# Altium footprint library OPTO_SMD.PcbLib: 1 footprints
Each footprint in its own frame and in the unit in brackets; x right, y up, seen from the top. Pads: shape width x height; smd on the part's side, far side on the other; paste and mask are expansions set on the pad; w line width, h text height; cw(c..) or ccw(c..) is an arc to the next point about the centre after c.
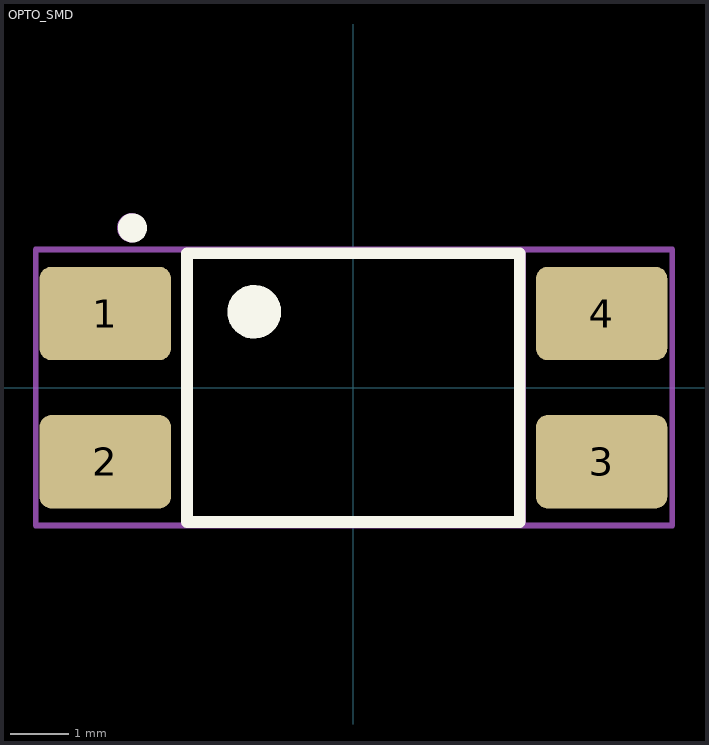
[diagram p0: the footprint, top view; thin cyan lines are the x and y axes]

## OPTO_SMD [mm] "OPTO_SMD"
pads (4):
  rrect25% 2.25x1.6 smd: 1(-4.25,1.27) 2(-4.25,-1.27) 3(4.25,-1.27) 4(4.25,1.27)
Top Overlay:
  circle w0.25: c-3.786,2.737 r0.125
  circle w0.2: c-1.7,1.3 r0.361
  region: -1.4,1.001 -2.001,1.001 -2.001,1.6 -1.4,1.6
  lines w0.2: -2.85,-2.3 2.85,-2.3 2.85,2.3 -2.85,2.3 -2.85,-2.3
Mechanical 1:
  circle w0.25: c-3.799,2.739 r0.125
  lines w0.1: -5.44,-2.362 5.459,-2.362 5.459,2.369 -5.44,2.369 -5.44,-2.362 ; -2.885,-2.347 2.904,-2.347 2.904,2.314 -2.885,2.314 -2.885,-2.347
  text ".Designator" at -0.127,0.315 h1
Top Courtyard:
  text "+" at -0.5,0.333 h1
3D body "PC817_smd.STEP": height 3.75, standoff -0.1, extent -5,-2.29 5,2.29